# Altium footprint library RS-4.PcbLib: 1 footprints
Each footprint in its own frame and in the unit in brackets; x right, y up, seen from the top. Pads: shape width x height; smd on the part's side, far side on the other; paste and mask are expansions set on the pad; w line width, h text height; cw(c..) or ccw(c..) is an arc to the next point about the centre after c.
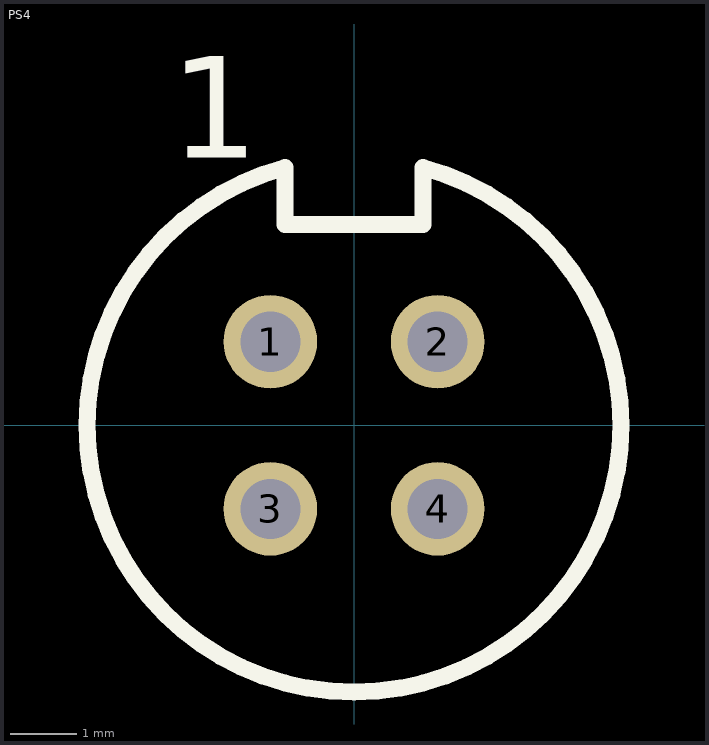
[diagram p0: the footprint, top view; thin cyan lines are the x and y axes]

## PS4 [mm]
pads (4):
  round 1.4 hole 0.9: 1(-1.25,1.25) 2(1.25,1.25) 3(-1.25,-1.25) 4(1.25,-1.25)
Top Overlay:
  lines w0.254: -1.029,3 1.029,3 1.029,3.855 cw(c0,0) -1.029,3.855 -1.029,3
  text "1" at -2.75,4 h1.52